# EAGLE library part ATMEGA328P-* (library RoboJackets-ICs)
AVR AVR® ATmega Microcontroller IC 8-Bit 20MHz 32KB (16K x 16) FLASH 32-TQFP (7x7) Digi-Key <https://www.digikey.com/product-detail/en/microchip-technology/ATMEGA328P-AUR/ATMEGA328P-AURCT-ND/3789455>
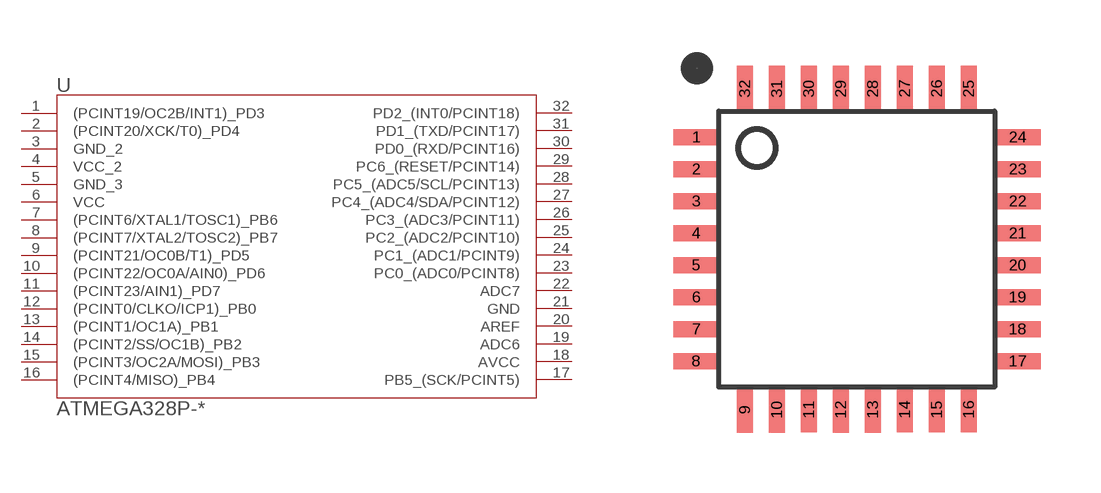
[diagram p20: symbol with the pads of ATMEGA328P-AUR; footprint ATMEGA328P-AUR]

Designator prefix U

## ATMEGA328P-AUR (DKPN: ATMEGA328P-AURCT-ND)  [ATMEGA328P-AUR]
1  (PCINT19/OC2B/INT1)_PD3  pas
2  (PCINT20/XCK/T0)_PD4  pas
3  GND_2  pas
4  VCC_2  pas
5  GND_3  pas
6  VCC  pas
7  (PCINT6/XTAL1/TOSC1)_PB6  pas
8  (PCINT7/XTAL2/TOSC2)_PB7  pas
9  (PCINT21/OC0B/T1)_PD5  pas
10  (PCINT22/OC0A/AIN0)_PD6  pas
11  (PCINT23/AIN1)_PD7  pas
12  (PCINT0/CLKO/ICP1)_PB0  pas
13  (PCINT1/OC1A)_PB1  pas
14  (PCINT2/SS/OC1B)_PB2  pas
15  (PCINT3/OC2A/MOSI)_PB3  pas
16  (PCINT4/MISO)_PB4  pas
17  PB5_(SCK/PCINT5)  pas
18  AVCC  pas
19  ADC6  pas
20  AREF  pas
21  GND  pas
22  ADC7  pas
23  PC0_(ADC0/PCINT8)  pas
24  PC1_(ADC1/PCINT9)  pas
25  PC2_(ADC2/PCINT10)  pas
26  PC3_(ADC3/PCINT11)  pas
27  PC4_(ADC4/SDA/PCINT12)  pas
28  PC5_(ADC5/SCL/PCINT13)  pas
29  PC6_(RESET/PCINT14)  pas
30  PD0_(RXD/PCINT16)  pas
31  PD1_(TXD/PCINT17)  pas
32  PD2_(INT0/PCINT18)  pas

## Footprint ATMEGA328P-AUR (pad centres in mm)
smd 1.15 x 0.4: 1 -3.946,2.603; 2 -3.955,1.803; 3 -3.955,1.003; 4 -3.955,0.203; 5 -3.955,-0.597; 6 -3.955,-1.397; 7 -3.955,-2.197; 8 -3.955,-2.997; 17 4.085,-2.997; 18 4.085,-2.197; 19 4.085,-1.397; 20 4.085,-0.597; 21 4.085,0.203; 22 4.085,1.003; 23 4.085,1.803; 24 4.085,2.603
smd 0.4 x 1.15: 9 -2.743,-4.21; 10 -1.943,-4.21; 11 -1.143,-4.207; 12 -0.343,-4.21; 13 0.457,-4.21; 14 1.257,-4.207; 15 2.057,-4.207; 16 2.857,-4.207; 25 2.857,3.813; 26 2.057,3.813; 27 1.257,3.813; 28 0.457,3.811; 29 -0.343,3.811; 30 -1.143,3.813; 31 -1.943,3.811; 32 -2.743,3.811